# Altium schematic symbol library OPA340NA.SchLib: 1 symbol
Pins are listed as number, name and electrical type; pins without a type are passive.

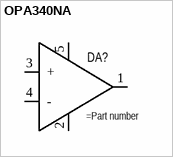
[diagram p0: symbol OPA340NA]

## OPA340NA
designator DA?
Rail-to-Rail Operational Amplifier
pins: 1 Out, 2 GND, 3 +, 4 -, 5 Vdd